# EAGLE library part A8498 (library robot)
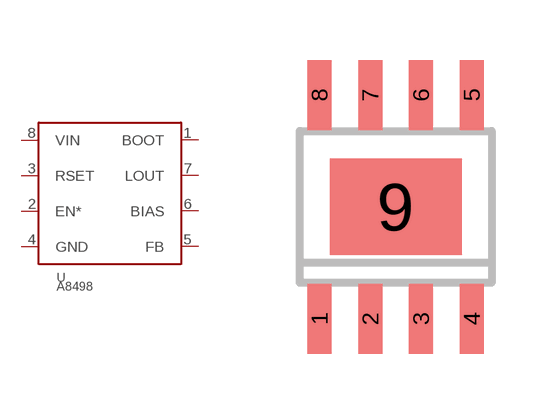
[diagram p8: symbol with the pads of SO8_PAD; footprint SO8_PAD]

Designator prefix -

## A8498SOIC_P  [SO8_PAD]
1  BOOT
2  EN*
3  RSET
4  GND
5  FB
6  BIAS
7  LOUT
8  VIN

## Footprint SO8_PAD (pad centres in mm)
SMALL OUTLINE INTEGRATED CIRCUIT body 3.9 mm/JEDEC MS-012AA
smd 0.6 x 1.75: 1 -1.905,-2.8; 2 -0.635,-2.8; 3 0.635,-2.8; 4 1.905,-2.8; 5 1.905,2.8; 6 0.635,2.8; 7 -0.635,2.8; 8 -1.905,2.8
smd 3.3 x 2.41: 9 0,0